# Altium footprint library voltage_regulators_other.PcbLib: 1 footprints
Each footprint in its own frame and in the unit in brackets; x right, y up, seen from the top. Pads: shape width x height; smd on the part's side, far side on the other; paste and mask are expansions set on the pad; w line width, h text height; cw(c..) or ccw(c..) is an arc to the next point about the centre after c.
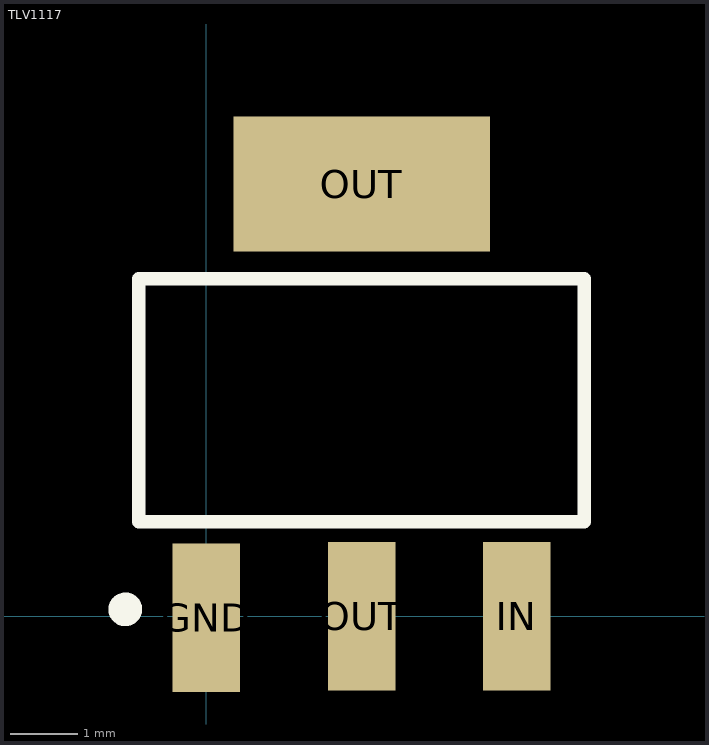
[diagram p0: the footprint, top view; thin cyan lines are the x and y axes]

## TLV1117 [mm]
height 1.75
pads (4):
  rect 1x2.2 smd: GND(0,-0.027) IN(4.6,0) OUT(2.3,0)
  rect 3.8x2 smd: OUT(2.3,6.4)
Top Overlay:
  circle w0.25: c-1.2,0.1 r0.125
  lines w0.2: -1,1.4 5.6,1.4 5.6,5 -1,5 -1,1.4
3D body: height 1.64, standoff -0.04, extent -0.964,-0.318 5.536,6.614